# Altium footprint library GCT_USB3130-30-A.PcbLib: 1 footprints
Each footprint in its own frame and in the unit in brackets; x right, y up, seen from the top. Pads: shape width x height; smd on the part's side, far side on the other; paste and mask are expansions set on the pad; w line width, h text height; cw(c..) or ccw(c..) is an arc to the next point about the centre after c.
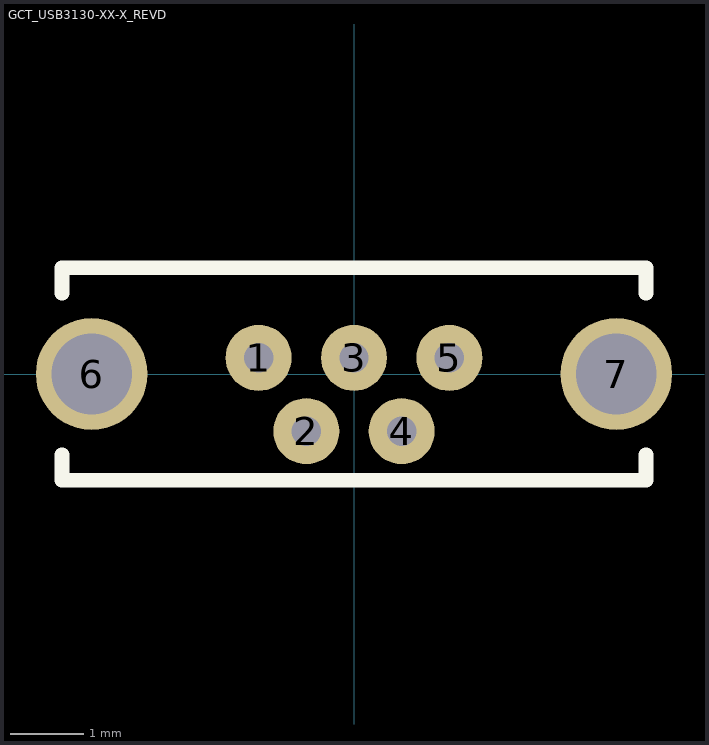
[diagram p0: the footprint, top view; thin cyan lines are the x and y axes]

## GCT_USB3130-XX-X_REVD [mm]
pads (7):
  round 0.9 hole 0.4: 1(-1.3,0.22) 2(-0.65,-0.78) 3(0,0.22) 4(0.65,-0.78) 5(1.3,0.22)
  round 1.524 hole 1.1: 6(-3.575,0) 7(3.575,0)
Top Overlay:
  lines w0.2: -3.98,-1.1 -3.98,-1.45 3.98,-1.45 3.98,-1.1 ; -3.98,1.1 -3.98,1.45 3.98,1.45 3.98,1.1
3D body "usb3130-30-a.stp": height 5.61, standoff -1.5, extent -3.971,-1.428 3.971,1.504